# Altium schematic symbol library STM32F091CCT6.Schlib: 1 symbol
Pins are listed as number, name and electrical type; pins without a type are passive.

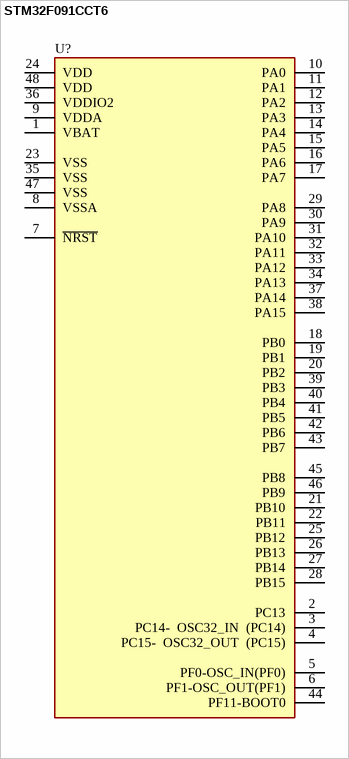
[diagram p0: symbol STM32F091CCT6]

## STM32F091CCT6
designator U?
38 2V ~ 3.6V 32-Bit ARM® Cortex®-M0 48MHz FLASH LQFP-48_7x7x05P ST Microelectronics ROHS; ComponentLink1Description: LCSC - STM32F091CCT6; ComponentLink1URL: https://lcsc.com/product-detail/ST-Microelectronics_STMicroelectronics-STM32F091CCT6_C129795.html; LCSC Part #: C129795
footprint ST LQFP-48 7x7MM (LQFP, 48-Leads, Body 7.00x7.00mm, Pitch 0.50mm, IPC Medium Density)
pins: 1 VBAT (power) "Backup power supply", 2 PC13 "WKUP2,  RTC_TAMP1,  RTC_TS,  RTC_OUT", 3 PC14-  OSC32_IN  (PC14) "OSC32_IN", 4 PC15-  OSC32_OUT  (PC15) "OSC32_OUT", 5 PF0-OSC_IN(PF0) "CRS_ SYNC, I2C1_SDA OSC_IN", 6 PF1-OSC_OUT(PF1) "I2C1_SCL OSC_OUT", 7 ~{NRST} "Device reset input / internal reset output  (active low)", 8 VSSA (power) "Analog ground", 9 VDDA (power) "Analog power supply", 10 PA0 "USART2_CTS,  TIM2_CH1_ETR,  TSC_G1_IO1,  USART4_TX  COMP1_OUT  RTC_ TAMP2,  WKUP1,  ADC_IN0,  COMP1_INM6", 11 PA1 "USART2_RTS,  TIM2_CH2,  TIM15_CH1N,  TSC_G1_IO2,  USART4_RX,  EVENTOUT  ADC_IN1,  COMP1_INP", 12 PA2 "USART2_TX, TIM2_CH3,  TIM15_CH1,  TSC_G1_IO3  COMP2_OUT  ADC_IN2,  WKUP4,  COMP2_INM6", 13 PA3 "USART2_RX,TIM2_CH4,  TIM15_CH2,  TSC_G1_IO4  ADC_IN3,  COMP2_INP", 14 PA4 "SPI1_NSS, I2S1_WS,  TIM14_CH1,  TSC_G2_IO1,  USART2_CK,  USART6_TX  COMP1_INM4,  COMP2_INM4,  ADC_IN4,  DAC_OUT1", 15 PA5 "SPI1_SCK, I2S1_CK,  CEC,  TIM2_CH1_ETR,  TSC_G2_IO2,  USART6_RX  COMP1_INM5,  COMP2_INM5,  ADC_IN5,  DAC_OUT2", 16 PA6 "SPI1_MISO, I2S1_MCK,  TIM3_CH1, TIM1_BKIN,  TIM16_CH1,  COMP1_OUT,  TSC_G2_IO3,  EVENTOUT,  USART3_CTS  ADC_IN6", 17 PA7 "SPI1_MOSI, I2S1_SD,  TIM3_CH2, TIM14_CH1,  TIM1_CH1N, TIM17_CH1,  COMP2_OUT,  TSC_G2_IO4,  EVENTOUT  ADC_IN7", 18 PB0 "TIM3_CH3, TIM1_CH2N,  TSC_G3_IO2,  EVENTOUT,  USART3_CK  ADC_IN8", 19 PB1 "TIM3_CH4,  USART3_RTS,  TIM14_CH1, TIM1_CH3N,  TSC_G3_IO3  ADC_IN9", 20 PB2 "TSC_G3_IO4", 21 PB10 "SPI2_SCK, I2S2_CK,  I2C2_SCL,  USART3_TX, CEC,  TSC_SYNC, TIM2_CH3", 22 PB11 "USART3_RX, TIM2_CH4,  EVENTOUT,  TSC_G6_IO1,  I2C2_SDA", 23 VSS (power) "Ground", 24 VDD (power) "Digital power supply", 25 PB12 "TIM1_BKIN, TIM15_BKIN,  SPI2_NSS, I2S2_WS,  USART3_CK,  TSC_G6_IO2,  EVENTOUT", 26 PB13 "SPI2_SCK, I2S2_CK,  I2C2_SCL,  USART3_CTS,  TIM1_CH1N,  TSC_G6_IO3", 27 PB14 "SPI2_MISO, I2S2_MCK,  I2C2_SDA,  USART3_RTS,  TIM1_CH2N, TIM15_CH1,  TSC_G6_IO4", 28 PB15 "SPI2_MOSI, I2S2_SD,  TIM1_CH3N,  TIM15_CH1N,  TIM15_CH2  WKUP7,  RTC_REFIN", 29 PA8 "USART1_CK, TIM1_CH1,  EVENTOUT, MCO,  CRS_SYNC", 30 PA9 "USART1_TX, TIM1_CH2,  TIM15_BKIN, MCO,  TSC_G4_IO1, I2C1_SCL", 31 PA10 "USART1_RX, TIM1_CH3,  TIM17_BKIN,  TSC_G4_IO2, I2C1_SDA", 32 PA11 "CAN_RX, USART1_CTS,  TIM1_CH4, COMP1_OUT,  TSC_G4_IO3,  EVENTOUT, I2C2_SCL", 33 PA12 "CAN_TX, USART1_RTS,  TIM1_ETR, COMP2_OUT,  TSC_G4_IO4,  EVENTOUT, I2C2_SDA", 34 PA13 "IR_OUT, SWDIO", 35 VSS (power) "Ground", 36 VDDIO2 (power) "Digital power supply", 37 PA14 "USART2_TX, SWCLK", 38 PA15 "SPI1_NSS, I2S1_WS,  USART2_RX,  USART4_RTS,  TIM2_CH1_ETR,  EVENTOUT", 39 PB3 "SPI1_SCK, I2S1_CK,  TIM2_CH2, TSC_G5_IO1,  EVENTOUT, USART5_TX", 40 PB4 "SPI1_MISO, I2S1_MCK,  TIM17_BKIN, TIM3_CH1,  TSC_G5_IO2,  EVENTOUT, USART5_RX", 41 PB5 "SPI1_MOSI, I2S1_SD,  I2C1_SMBA,  TIM16_BKIN,  TIM3_CH2,  USART5_CK_RTS  WKUP6", 42 PB6 "I2C1_SCL, USART1_TX,  TIM16_CH1N,  TSC_G5_I03", 43 PB7 "I2C1_SDA, USART1_RX,  USART4_CTS,  TIM17_CH1N,  TSC_G5_IO4", 44 PF11-BOOT0 "Boot memory  selection", 45 PB8 "I2C1_SCL, CEC,  TIM16_CH1, TSC_SYNC,  CAN_RX", 46 PB9 "SPI2_NSS, I2S2_WS,  I2C1_SDA, IR_OUT,  TIM17_CH1, EVENTOUT,  CAN_TX", 47 VSS (power) "Ground", 48 VDD (power) "Digital power supply"